# EAGLE library part A22H165M (library gee_s)
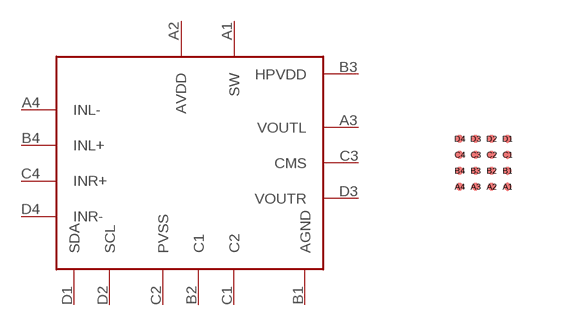
[diagram p16: symbol with the pads of BGA8X80.4; footprint BGA8X80.4]

Designator prefix -

## A22H165M  [BGA8X80.4]
A1  SW
A2  AVDD
A3  VOUTL
A4  INL-
B1  AGND
B2  C1
B3  HPVDD
B4  INL+
C1  C2
C2  PVSS
C3  CMS
C4  INR+
D1  SDA
D2  SCL
D3  VOUTR
D4  INR-

## Footprint BGA8X80.4 (pad centres in mm)
smd 0.2 x 0.2: A1 0.6,-0.6; A2 0.2,-0.6; A3 -0.2,-0.6; A4 -0.6,-0.6; B1 0.6,-0.2; B2 0.2,-0.2; B3 -0.2,-0.2; B4 -0.6,-0.2; C1 0.6,0.2; C2 0.2,0.2; C3 -0.2,0.2; C4 -0.6,0.2; D1 0.6,0.6; D2 0.2,0.6; D3 -0.2,0.6; D4 -0.6,0.6